# Altium footprint library semtech.PcbLib: 62 footprints (part 3 of 4)
Each footprint in its own frame and in the unit in brackets; x right, y up, seen from the top. Pads: shape width x height; smd on the part's side, far side on the other; paste and mask are expansions set on the pad; w line width, h text height; cw(c..) or ccw(c..) is an arc to the next point about the centre after c.
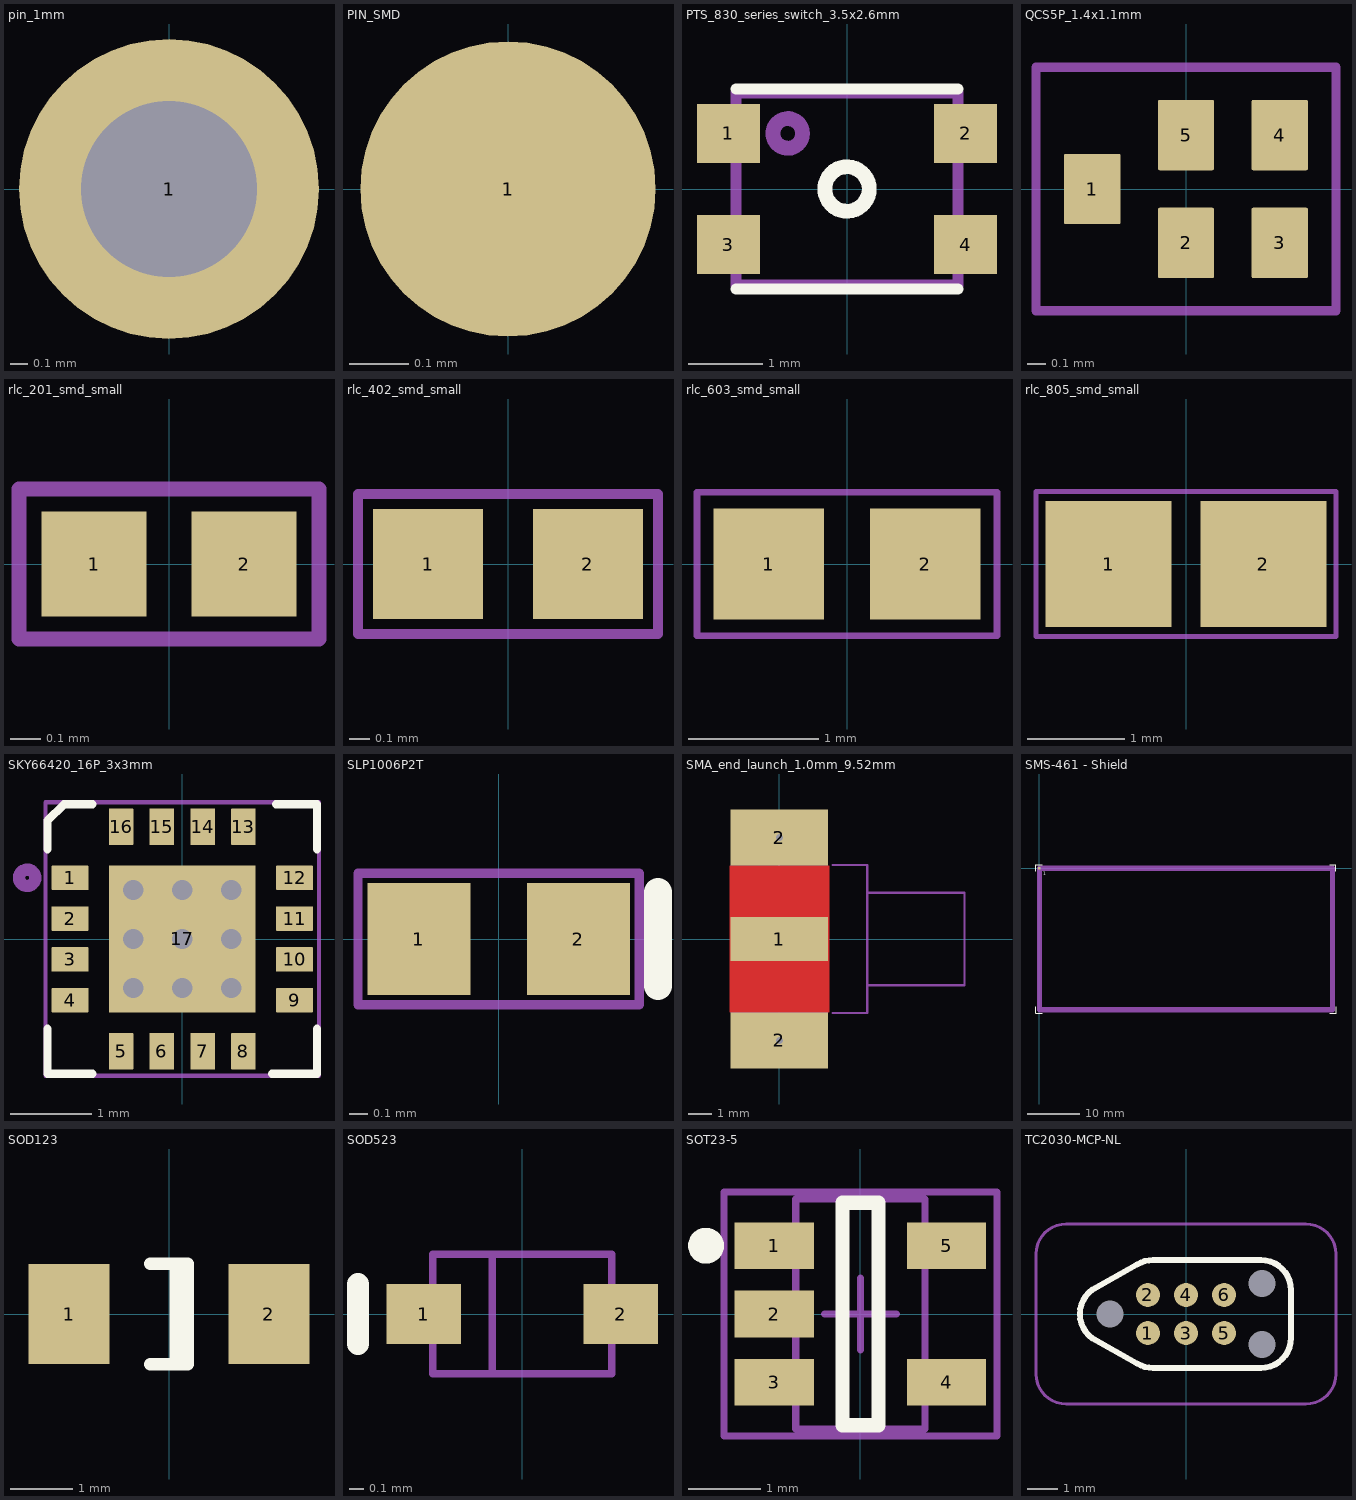
[diagram p2: the footprints below, top view; thin cyan lines are the x and y axes]

## pin_1mm [mm] "Generic Pin 1.1mm; 1 Lead"
height 1
pads (1):
  round 1.7 hole 1 paste+0 mask+0.05: 1(0,0)

## PIN_SMD [mm] "Generic Pin SMD; 1 Lead"
height 1
pads (1):
  round 0.5 smd paste-3 mask+0.05: 1(0,0)

## PTS_830_series_switch_3.5x2.6mm [mm] "Single pole switch; Body 3.5x 2.6 mm (LxW typ)"
height 2
pads (4):
  rect 0.85x0.8 smd paste+0 mask+0.05: 1(-1.6,0.75) 2(1.6,0.75) 3(-1.6,-0.75) 4(1.6,-0.75)
Top Overlay:
  circle w0.2: c0,0 r0.3
  lines w0.15: -1.5,-1.35 1.5,-1.35 ; -1.5,1.35 1.5,1.35
Mechanical 15:
  circle w0.2: c-0.8,0.75 r0.2
  lines w0.15: -1.5,-1.3 -1.5,1.3 1.5,1.3 1.5,-1.3 -1.5,-1.3
3D body: height 0.8, standoff 0.2, extent -1.5,-1 1.5,1

## QCS5P_1.4x1.1mm [mm] "QCS5P footprint, 1.4x1.1mm; TDK"
height 0.5
pads (5):
  rrect5% 0.3x0.375 smd paste+0 mask+0.05: 1(-0.5,0) 2(0,-0.288) 3(0.5,-0.288) 4(0.5,0.288) 5(0,0.288)
Mechanical 15:
  lines w0.05: -0.8,-0.65 0.8,-0.65 0.8,0.65 -0.8,0.65 -0.8,-0.65
  text "1" at -0.55,-0.5 h0.2
3D body: height 1, standoff 0, extent -0.7,-0.55 0.7,0.55

## rlc_201_smd_small [mm] "Chip SMD component 201; Body 0.6 x 0.3 mm (LxW typ); small footprint"
height 0.3
pads (2):
  rect 0.35x0.35 smd paste+0 mask+0.025: 1(-0.25,0) 2(0.25,0)
Mechanical 15:
  lines w0.05: -0.5,-0.25 0.5,-0.25 0.5,0.25 -0.5,0.25 -0.5,-0.25
3D body: height 0.5, standoff 0.1, extent -0.3,-0.15 0.3,0.15

## rlc_402_smd_small [mm] "Chip SMD component 402; Body 1.0 x 0.5 mm (LxW typ);small footprint"
height 0.8
pads (2):
  rect 0.55x0.55 smd mask+0.025: 1(-0.4,0) 2(0.4,0)
Mechanical 15:
  lines w0.05: -0.75,-0.35 0.75,-0.35 0.75,0.35 -0.75,0.35 -0.75,-0.35
3D body: height 0.6, standoff 0.1, extent -0.5,-0.25 0.5,0.25

## rlc_603_smd_small [mm] "Chip SMD component 603; Body 1.6 x 0.8mm (LxW typ); small footprint"
height 1
pads (2):
  rect 0.85x0.85 smd paste+0 mask+0.05: 1(-0.6,0) 2(0.6,0)
Mechanical 15:
  lines w0.05: -1.15,-0.55 1.15,-0.55 1.15,0.55 -1.15,0.55 -1.15,-0.55
3D body: height 0.9, standoff 0.1, extent -0.8,-0.4 0.8,0.4

## rlc_805_smd_small [mm] "Chip SMD component 805; Body 2.0 x 1.25 mm (LxW typ); small footprint"
height 1.4
pads (2):
  rect 1.3x1.3 smd mask+0.05: 1(-0.8,0) 2(0.8,0)
Mechanical 15:
  lines w0.05: -1.55,-0.75 1.55,-0.75 1.55,0.75 -1.55,0.75 -1.55,-0.75
3D body: height 1, standoff 0.1, extent -1,-0.625 1,0.625

## SKY66420_16P_3x3mm [mm] "16 Leads, Body 3.0x3.0mm, Pitch 0.50mm"
height 1
pads (17):
  rrect5% 0.45x0.3 smd mask+0.05: 1(-1.375,0.75) 2(-1.375,0.25) 3(-1.375,-0.25) 4(-1.375,-0.75) 9(1.375,-0.75) 10(1.375,-0.25) 11(1.375,0.25) 12(1.375,0.75)
  rrect5% 0.3x0.45 smd mask+0.05: 5(-0.75,-1.375) 6(-0.25,-1.375) 7(0.25,-1.375) 8(0.75,-1.375) 13(0.75,1.375) 14(0.25,1.375) 15(-0.25,1.375) 16(-0.75,1.375)
  rrect1% 1.8x1.8 smd paste-5 mask-5: 17(0,0)
via 0,0 diameter 0.5 hole 0.25
via 0,-0.6 diameter 0.5 hole 0.25
via 0.6,-0.6 diameter 0.5 hole 0.25
via 0.6,0 diameter 0.5 hole 0.25
via 0.6,0.6 diameter 0.5 hole 0.25
via 0,0.6 diameter 0.5 hole 0.25
via -0.6,0.6 diameter 0.5 hole 0.25
via -0.6,0 diameter 0.5 hole 0.25
via -0.6,-0.6 diameter 0.5 hole 0.25
Top Overlay:
  lines w0.1: -1.65,-1.1 -1.65,-1.65 -1.1,-1.65 ; -1.65,1.1 -1.65,1.45 -1.45,1.65 -1.1,1.65 ; 1.1,-1.65 1.65,-1.65 1.65,-1.1 ; 1.15,1.65 1.65,1.65 1.65,1.1
Top Paste:
  region: -0.875,0.875 -0.875,0.375 -0.375,0.375 -0.375,0.875
  region: -0.25,0.875 -0.25,0.375 0.25,0.375 0.25,0.875
  region: 0.375,0.875 0.375,0.375 0.875,0.375 0.875,0.875
  region: -0.875,0.25 -0.875,-0.25 -0.375,-0.25 -0.375,0.25
  region: -0.25,0.25 -0.25,-0.25 0.25,-0.25 0.25,0.25
  region: 0.375,0.25 0.375,-0.25 0.875,-0.25 0.875,0.25
  region: -0.875,-0.375 -0.875,-0.875 -0.375,-0.875 -0.375,-0.375
  region: -0.25,-0.375 -0.25,-0.875 0.25,-0.875 0.25,-0.375
  region: 0.375,-0.375 0.375,-0.875 0.875,-0.875 0.875,-0.375
Top Solder:
  rectangle: -0.925,0.35 -0.35,0.925
  rectangle: -0.275,0.35 0.275,0.925
  rectangle: 0.35,0.35 0.925,0.925
  rectangle: 0.35,-0.275 0.925,0.275
  rectangle: -0.275,-0.275 0.275,0.275
  rectangle: -0.925,-0.275 -0.35,0.275
  rectangle: 0.35,-0.925 0.925,-0.35
  rectangle: -0.275,-0.925 0.275,-0.35
  rectangle: -0.925,-0.925 -0.35,-0.35
Mechanical 2:
  text "1" at -2,1.15 h0.5
Mechanical 15:
  circle w0.15: c-1.9,0.75 r0.1
  lines w0.05: -1.675,-1.675 -1.675,1.675 1.675,1.675 1.675,-1.675 -1.675,-1.675
3D body: height 0, standoff 0, extent -1.5,-1.5 1.5,1.5

## SLP1006P2T [mm] "Chip TVS Diode; Body 1.0 x 0.6 mm (LxW typ)"
height 0.5
pads (2):
  rect 0.55x0.6 smd mask+0.05: 1(-0.425,0) 2(0.425,0)
Top Overlay:
  lines w0.15: 0.85,-0.25 0.85,0.25
Mechanical 15:
  lines w0.05: -0.75,-0.35 0.75,-0.35 0.75,0.35 -0.75,0.35 -0.75,-0.35
3D body: height 0.8, standoff 0.2, extent -0.5,-0.3 0.5,0.3

## SMA_end_launch_1.0mm_9.52mm [mm] "SMA end launch for 1.0mm PCB thickness; 9.52mm"
height 10
pads (3):
  rect 4.2x1.905 smd mask+0.05: 1(0,0)
  rect 4.2x2.413 hole 0.3 mask+0.05: 2(0,-4.38) 2(0,4.38)
Top Layer:
  pour cut-out: 2.15,-3.175 -2.15,-3.175 -2.15,3.175 2.15,3.175
MidLayer1 - GND:
  pour cut-out: 2.15,-3.175 -2.15,-3.175 -2.15,3.175 2.15,3.175
MidLayer2:
  pour cut-out: 2.15,-3.175 -2.15,-3.175 -2.15,3.175 2.15,3.175
Mechanical 15:
  lines w0.01: -2.1,-3.17 -2.1,3.17 2.1,3.17 2.1,-3.17 -2.1,-3.17
  lines w0.1: 2.295,-3.2 3.796,-3.2 3.796,-2 ; 2.295,3.2 3.796,3.2 3.796,2 ; 3.796,-2 3.796,2 ; 3.796,-2 8,-2 8,2 3.796,2
3D body: height 4, standoff 0.05, extent -2.15,-5.65 2.15,5.65

## SMS-461 - Shield [mm] "SMS-461 - RF Shield EMI Gasket - Standard Surface Mount Shields -  Leader Tech"
height 6
pads (1):
  rect 0.5x0.5 smd paste-1 mask+0.05: 1(0,0)
Top Overlay:
  lines w0.1: -0.65,-26.45 -0.65,-27.65 0.55,-27.65 ; -0.65,-0.55 -0.65,0.65 0.55,0.65 ; 55.3,-27.65 56.5,-27.65 56.5,-26.45 ; 55.3,0.65 56.5,0.65 56.5,-0.55
  text "1" at 0.75,-1.325 h0.6
Top Paste:
  region: 45.04,-0.5 41.03,-0.5 41.03,0.5 45.04,0.5
  region: 39,-0.5 34.98,-0.5 34.98,0.5 39,0.5
  region: 51.09,-0.5 47.07,-0.5 47.07,0.5 51.09,0.5
  region: 32.95,-0.5 28.94,-0.5 28.94,0.5 32.95,0.5
  region: 26.91,-0.5 22.89,-0.5 22.89,0.5 26.91,0.5
  region: 20.86,-0.5 16.85,-0.5 16.85,0.5 20.86,0.5
  region: 14.82,-0.5 10.8,-0.5 10.8,0.5 14.82,0.5
  region: 8.77,-0.5 4.76,-0.5 4.76,0.5 8.77,0.5
  region: 2.73,-0.5 -0.5,-0.5 -0.5,0.5 2.73,0.5
  region: 0.5,0.5 0.5,-3.93 -0.5,-3.93 -0.5,0.5
  region: 0.5,-5.68 0.5,-9.72 -0.5,-9.72 -0.5,-5.68
  region: 0.5,-23.06 0.5,-27.5 -0.5,-27.5 -0.5,-23.06
  region: 0.5,-17.27 0.5,-21.31 -0.5,-21.31 -0.5,-17.27
  region: 0.5,-11.48 0.5,-15.51 -0.5,-15.51 -0.5,-11.48
  region: 56.35,-0.5 53.12,-0.5 53.12,0.5 56.35,0.5
  region: 56.35,-11.48 56.35,-15.51 55.35,-15.51 55.35,-11.48
  region: 56.35,-17.27 56.35,-21.31 55.35,-21.31 55.35,-17.27
  region: 56.35,-23.06 56.35,-27.5 55.35,-27.5 55.35,-23.06
  region: 56.35,-5.68 56.35,-9.72 55.35,-9.72 55.35,-5.68
  region: 56.35,0.5 56.35,-3.93 55.35,-3.93 55.35,0.5
  region: 56.35,-27.5 53.12,-27.5 53.12,-26.5 56.35,-26.5
  region: 2.73,-27.5 -0.5,-27.5 -0.5,-26.5 2.73,-26.5
  region: 8.77,-27.5 4.76,-27.5 4.76,-26.5 8.77,-26.5
  region: 14.82,-27.5 10.8,-27.5 10.8,-26.5 14.82,-26.5
  region: 20.86,-27.5 16.85,-27.5 16.85,-26.5 20.86,-26.5
  region: 26.91,-27.5 22.89,-27.5 22.89,-26.5 26.91,-26.5
  region: 32.95,-27.5 28.94,-27.5 28.94,-26.5 32.95,-26.5
  region: 51.09,-27.5 47.07,-27.5 47.07,-26.5 51.09,-26.5
  region: 39,-27.5 34.98,-27.5 34.98,-26.5 39,-26.5
  region: 45.04,-27.5 41.03,-27.5 41.03,-26.5 45.04,-26.5
Top Solder:
  region: 51.09,-0.5 47.07,-0.5 47.07,0.5 51.09,0.5
  region: 56.35,-0.5 53.12,-0.5 53.12,0.5 56.35,0.5
  region: 32.95,-0.5 28.94,-0.5 28.94,0.5 32.95,0.5
  region: 26.91,-0.5 22.89,-0.5 22.89,0.5 26.91,0.5
  region: 8.77,-0.5 4.76,-0.5 4.76,0.5 8.77,0.5
  region: 56.35,-27.5 53.12,-27.5 53.12,-26.5 56.35,-26.5
  region: 51.09,-27.5 47.07,-27.5 47.07,-26.5 51.09,-26.5
  region: 8.77,-27.5 4.76,-27.5 4.76,-26.5 8.77,-26.5
  region: 26.91,-27.5 22.89,-27.5 22.89,-26.5 26.91,-26.5
  region: 32.95,-27.5 28.94,-27.5 28.94,-26.5 32.95,-26.5
  region: 0.5,0.5 0.5,-3.93 -0.5,-3.93 -0.5,0.5
  region: 0.5,-5.68 0.5,-9.72 -0.5,-9.72 -0.5,-5.68
  region: 0.5,-23.06 0.5,-27.5 -0.5,-27.5 -0.5,-23.06
  region: 45.04,-0.5 41.03,-0.5 41.03,0.5 45.04,0.5
  region: 39,-0.5 34.98,-0.5 34.98,0.5 39,0.5
  region: 20.86,-0.5 16.85,-0.5 16.85,0.5 20.86,0.5
  region: 14.82,-0.5 10.8,-0.5 10.8,0.5 14.82,0.5
  region: 2.73,-0.5 -0.5,-0.5 -0.5,0.5 2.73,0.5
  region: 0.5,-11.48 0.5,-15.51 -0.5,-15.51 -0.5,-11.48
  region: 0.5,-17.27 0.5,-21.31 -0.5,-21.31 -0.5,-17.27
  region: 45.04,-27.5 41.03,-27.5 41.03,-26.5 45.04,-26.5
  region: 39,-27.5 34.98,-27.5 34.98,-26.5 39,-26.5
  region: 20.86,-27.5 16.85,-27.5 16.85,-26.5 20.86,-26.5
  region: 14.82,-27.5 10.8,-27.5 10.8,-26.5 14.82,-26.5
  region: 2.73,-27.5 -0.5,-27.5 -0.5,-26.5 2.73,-26.5
  region: 56.35,-23.06 56.35,-27.5 55.35,-27.5 55.35,-23.06
  region: 56.35,-5.68 56.35,-9.72 55.35,-9.72 55.35,-5.68
  region: 56.35,0.5 56.35,-3.93 55.35,-3.93 55.35,0.5
  region: 56.35,-11.48 56.35,-15.51 55.35,-15.51 55.35,-11.48
  region: 56.35,-17.27 56.35,-21.31 55.35,-21.31 55.35,-17.27
Mechanical 15:
  lines w1: 0,-27 55.85,-27 55.85,0 0,0 0,-27
3D body: height 6, standoff 0.05, extent -0.25,-0.25 0.25,0.25

## SOD123 [mm] "SOD123; Chip Diode; Body  2.7 x 1.6 mm (LxW typ)"
height 1.35
pads (2):
  rect 1.3x1.6 smd mask+0.05: 1(-1.6,0) 2(1.6,0)
Top Overlay:
  lines w0.2: -0.3,-0.8 0.3,-0.8 0.3,0.8 -0.3,0.8 ; 0.11,-0.8 0.11,0.8

## SOD523 [mm] "SOD523; Chip Diode; Body 1.2 x 0.8 mm (LxW typ)"
height 0.7
pads (2):
  rect 0.5x0.4 smd mask+0.05: 1(-0.66,0) 2(0.66,0)
Top Overlay:
  lines w0.15: -1.1,-0.2 -1.1,0.2
Mechanical 15:
  lines w0.05: -0.2,-0.4 -0.2,0.4 ; -0.6,-0.4 0.6,-0.4 0.6,0.4 -0.6,0.4 -0.6,-0.4
3D body: height 0.8, standoff 0.1, extent -0.6,-0.4 0.6,0.4

## SOT23-5 [mm] "SOT23, 5-Leads, Body 2.9x1.6mm, Pitch 0.95mm, Lead Span 2.8mm, IPC Medium Density"
height 1.45
pads (5):
  rect 1.1x0.65 smd mask+0.05: 1(-1.2,0.95) 2(-1.2,0) 3(-1.2,-0.95) 4(1.2,-0.95) 5(1.2,0.95)
Top Overlay:
  circle w0.25: c-2.15,0.95 r0.125
  lines w0.2: -0.25,-1.55 0.25,-1.55 0.25,1.55 -0.25,1.55 -0.25,-1.55
Mechanical 13:
  lines w0.1: -0.9,-1.6 -0.9,1.6 0.9,1.6 0.9,-1.6 -0.9,-1.6
Mechanical 15:
  lines w0.1: -0.5,0 0.5,0 ; 0,-0.5 0,0.5 ; -1.9,-1.7 -1.9,1.7 1.9,1.7 1.9,-1.7 -1.9,-1.7
3D body: height 1.45, standoff 0, extent -0.9,-1.55 0.9,1.55

## TC2030-MCP-NL [mm] "Conector ICD en placa"
height 8
pads (9):
  round 0.8 smd paste-0.4: 1(-1.27,-0.635) 2(-1.27,0.635) 3(0,-0.635) 4(0,0.635) 5(1.27,-0.635) 6(1.27,0.635)
  round 0.85 hole 0.9 unplated mask+0: ""(-2.54,0) ""(2.54,-1.016) ""(2.54,1.016)
Top Overlay:
  lines w0.2: -3.111,-0.816 cw(c-2.544,0) -3.111,0.816 -1.63,1.648 cw(c-1.1,0.8) -1.1,1.8 2.5,1.8 cw(c2.5,0.8) 3.5,0.8 3.5,-0.8 cw(c2.5,-0.8) 2.5,-1.8 -1.1,-1.8 cw(c-1.1,-0.8) -1.63,-1.648 -3.111,-0.816
Mechanical 15:
  lines w0.1: -5,-2 ccw(c-4,-2) -4,-3 4,-3 ccw(c4,-2) 5,-2 5,2 ccw(c4,2) 4,3 -4,3 ccw(c-4,2) -5,2 -5,-2
3D body: height 0, standoff 0, extent -3.539,-1.801 3.501,1.801